# EAGLE library part LT8609BEMSE#PBF (library LT8609BEMSE_PBF)
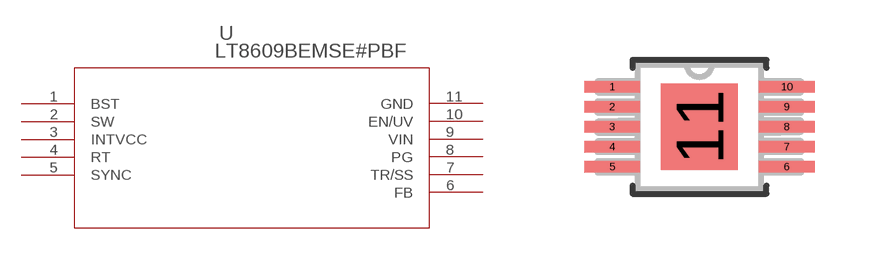
[diagram p0: symbol with the pads of MSOP-10_MSE; footprint MSOP-10_MSE]

Designator prefix U

## LT8609BEMSE#PBF (Check_prices: https://www.snapeda.com/parts/LT8609BEMSE%23PBF/Analog+Devices/view-part/?ref=eda; Description: Buck Switching Regulator IC Positive Adjustable 0.782V 1 Output 3A 10-TFSOP, 10-MSOP (0.118, 3.00mm Width) Exposed Pad; DigiKey_Part_Number: LT8609BEMSE#PBF-ND; MF: Analog Devices; MP: LT8609BEMSE#PBF; Package: MSOP-10 Linear Technology; SnapEDA_Link: https://www.snapeda.com/parts/LT8609BEMSE%23PBF/Analog+Devices/view-part/?ref=snap)  [MSOP-10_MSE]
1  BST  in
2  SW  out
3  INTVCC  pas
4  RT  pas
5  SYNC  in
6  FB  pas
7  TR/SS  out
8  PG  out
9  VIN  in
10  EN/UV  pas
11  GND  pwr

## Footprint MSOP-10_MSE (pad centres in mm)
smd 1.397 x 0.279: 1 -2.184,1.001; 2 -2.184,0.5; 3 -2.184,0; 4 -2.184,-0.5; 5 -2.184,-1.001; 6 2.184,-1.001; 7 2.184,-0.5; 8 2.184,0; 9 2.184,0.5; 10 2.184,1.001
smd 1.93 x 2.159: 11 0,0